# EAGLE library part LTC4263 (library motorFeedback)
edit this description Auto generated by make-symbol-device-package-bsdl.ulp Rev. 43 Source:
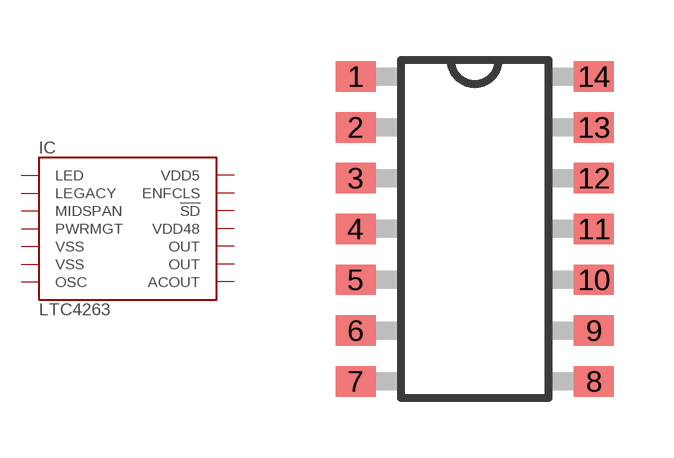
[diagram p29: symbol with the pads of S14-NARROW; footprint S14-NARROW]

Designator prefix IC

## LTC4263  [S14-NARROW]
1  LED
2  LEGACY
3  MIDSPAN
4  PWRMGT
5  VSS
6  VSS
7  OSC
8  ACOUT
9  OUT
10  OUT
11  VDD48
12  !SD!
13  ENFCLS
14  VDD5

## Footprint S14-NARROW (pad centres in mm)
S14-NARROW Auto generated by make-symbol-device-package-bsdl.ulp Rev. 43
smd 1 x 0.76: 1 -2.98,3.81; 2 -2.98,2.54; 3 -2.98,1.27; 4 -2.98,0; 5 -2.98,-1.27; 6 -2.98,-2.54; 7 -2.98,-3.81; 8 2.98,-3.81; 9 2.98,-2.54; 10 2.98,-1.27; 11 2.98,0; 12 2.98,1.27; 13 2.98,2.54; 14 2.98,3.81